# Altium footprint library WE-MK.PcbLib: 5 footprints
Each footprint in its own frame and in the unit in brackets; x right, y up, seen from the top. Pads: shape width x height; smd on the part's side, far side on the other; paste and mask are expansions set on the pad; w line width, h text height; cw(c..) or ccw(c..) is an arc to the next point about the centre after c.
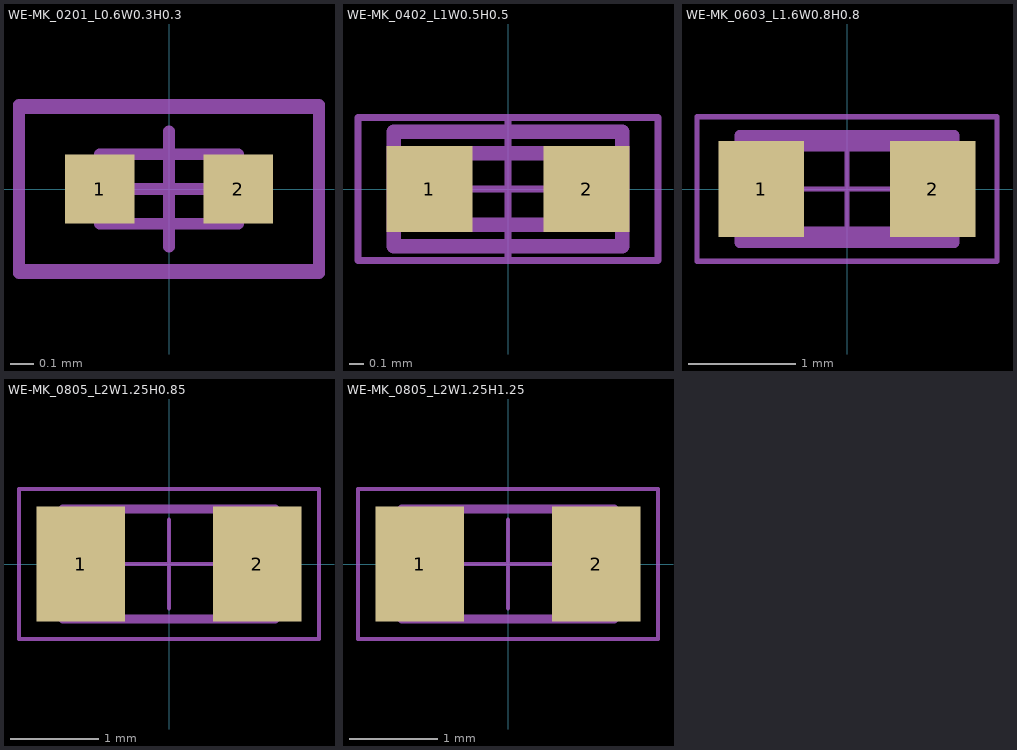
[diagram p0: the footprints below, top view; thin cyan lines are the x and y axes]

## WE-MK_0201_L0.6W0.3H0.3 [mm] "SMD Multilayer Ceramic Inductor, body 0.60x0.30mm"
height 0.33
pads (2):
  rect 0.3x0.3 smd: 1(-0.3,0) 2(0.3,0)
Top Designator:
  text ".Designator" at -2.499,-0.167 h0.5
Top Component Outline:
  lines w0.05: -0.65,-0.35 -0.65,0.35 0.65,0.35 0.65,-0.35 -0.65,-0.35
Top 3D Body:
  lines w0.05: -0.3,-0.15 -0.3,0.15 0.3,0.15 0.3,-0.15 -0.3,-0.15
Top Courtyard:
  lines w0.05: -0.25,0 0.25,0 ; 0,-0.25 0,0.25 ; -0.65,-0.365 0.65,-0.365 0.65,0.365 -0.65,0.365 -0.65,-0.365
3D body "7447820xxx_0201.stp": height 0.3, standoff 0, extent -0.3,-0.15 0.3,0.15

## WE-MK_0402_L1W0.5H0.5 [mm] "SMD Multilayer Ceramic Inductor, body 1.00x0.50mm"
height 0.55
pads (2):
  rect 0.6x0.6 smd: 1(-0.55,0) 2(0.55,0)
Top Designator:
  text ".Designator" at -2.499,-0.167 h0.5
Top Component Outline:
  lines w0.1: -0.8,-0.4 0.8,-0.4 0.8,0.4 -0.8,0.4 -0.8,-0.4
Top 3D Body:
  lines w0.1: -0.5,-0.25 0.5,-0.25 0.5,0.25 -0.5,0.25 -0.5,-0.25
Top Courtyard:
  lines w0.05: -0.5,0 0.5,0 ; 0,-0.5 0,0.5 ; -1.05,-0.5 1.05,-0.5 1.05,0.5 -1.05,0.5 -1.05,-0.5
3D body "7447840xxx _0402.stp": height 0.5, standoff 0, extent -0.5,-0.25 0.5,0.25

## WE-MK_0603_L1.6W0.8H0.8 [mm] "SMD Multilayer Ceramic Inductor, body 1.60x0.80mm"
height 0.95
pads (2):
  rect 0.8x0.9 smd: 1(-0.8,0) 2(0.8,0)
Top Designator:
  text ".Designator" at -2.499,-0.167 h0.5
Top Component Outline:
  lines w0.1: -1,-0.5 -1,0.5 1,0.5 1,-0.5 -1,-0.5
Top 3D Body:
  lines w0.1: -0.8,-0.4 0.8,-0.4 0.8,0.4 -0.8,0.4 -0.8,-0.4
Top Courtyard:
  lines w0.05: -0.5,0 0.5,0 ; 0,-0.5 0,0.5 ; -1.4,-0.675 -1.4,0.675 1.4,0.675 1.4,-0.675 -1.4,-0.675
3D body "7447860xxx _0603.stp": height 0.8, standoff 0, extent -0.8,-0.4 0.8,0.4

## WE-MK_0805_L2W1.25H0.85 [mm] "Multilayer Ceramic SMT Inductor, body 2.00x1.25mm"
height 1.05
pads (2):
  rect 1x1.3 smd: 1(-1,0) 2(1,0)
Top Designator:
  text ".Designator" at -3.499,-0.233 h0.7
Top Component Outline:
  lines w0.1: -1.2,-0.625 -1.2,0.625 1.2,0.625 1.2,-0.625 -1.2,-0.625
Top 3D Body:
  lines w0.1: -1,-0.625 -1,0.625 1,0.625 1,-0.625 -1,-0.625
Top Courtyard:
  lines w0.05: -0.5,0 0.5,0 ; 0,-0.5 0,0.5 ; -1.7,-0.85 -1.7,0.85 1.7,0.85 1.7,-0.85 -1.7,-0.85
3D body "0805_2,0x1,25x0,85.stp": height 0.85, standoff 0, extent -1,-0.625 1,0.625

## WE-MK_0805_L2W1.25H1.25 [mm] "Multilayer Ceramic SMT Inductor, body 2x1.25mm"
height 1.25
pads (2):
  rect 1x1.3 smd: 1(-1,0) 2(1,0)
Top Designator:
  text ".Designator" at -3.499,-0.233 h0.7
Top Component Outline:
  lines w0.1: -1.2,-0.625 1.2,-0.625 1.2,0.625 -1.2,0.625 -1.2,-0.625
Top 3D Body:
  lines w0.1: -1,-0.625 1,-0.625 1,0.625 -1,0.625 -1,-0.625
Top Courtyard:
  lines w0.05: -0.5,0 0.5,0 ; 0,-0.5 0,0.5 ; -1.7,-0.85 1.7,-0.85 1.7,0.85 -1.7,0.85 -1.7,-0.85
3D body "0805_2,0x1,25x1,25.stp": height 1.25, standoff 0, extent -1,-0.625 1,0.625